# EAGLE library part LM2936M?* (library national-semiconductor)
Ultra-Low Quiescent Current LDO Voltage Regulator Source: Data sheet <http://www.national.com/ds/LM/LM2936.pdf>
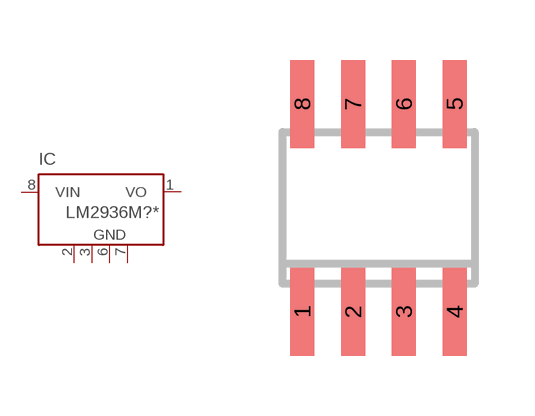
[diagram p6: symbol with the pads of SO08; footprint SO08]

Designator prefix IC

## LM2936M-3.0 (OC_FARNELL: 1286868; OC_NEWARK: unknown), LM2936M-3.3 (MF: NATIONAL SEMICONDUCTOR; MPN: LM2936M-3.3/NOPB; OC_FARNELL: 1469059; OC_NEWARK: 41K4514), LM2936M-5.0 (MF: NATIONAL SEMICONDUCTOR; MPN: LM2936M-5.0/NOPB; OC_FARNELL: 9494421; OC_NEWARK: 41K4515)  [SO08]
1  VO  pas
2  GND  pas
3  GND  pas
6  GND  pas
7  GND  pas
8  VIN  in

## Footprint SO08 (pad centres in mm)
Small Outline Package 8 NS Package M08A
smd 0.6 x 2.2: 1 -1.905,-2.6; 2 -0.635,-2.6; 3 0.635,-2.6; 4 1.905,-2.6; 5 1.905,2.6; 6 0.635,2.6; 7 -0.635,2.6; 8 -1.905,2.6